# EAGLE library part HEADER-2X04 (library Header and Connector)
Header - 2X04
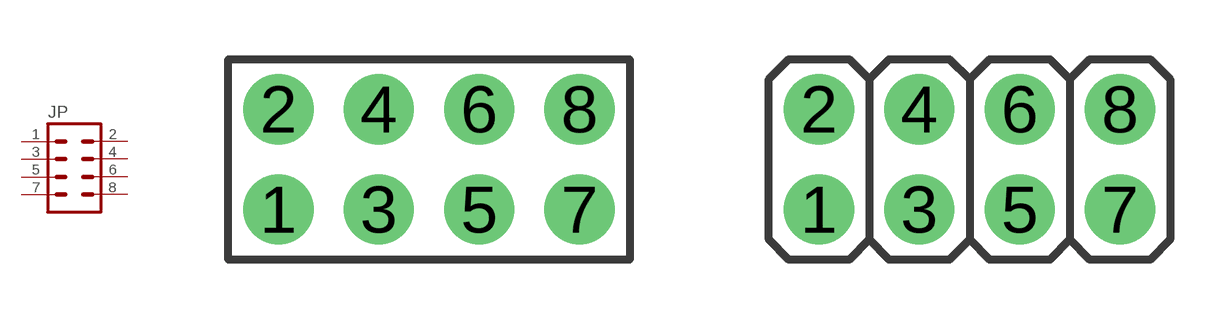
[diagram p9: symbol with the pads of HDR-F2X04; footprints HDR-F2X04, HDR-M2X04]

Designator prefix JP

## HEADER-2X04_(FEMALE) (CYTRON-PC: CN-PH-F240S; DESC: Female Header - 2x40 Ways; VALUE: 4/40 Ways)  [HDR-F2X04]
1  1  pas
2  2  pas
3  3  pas
4  4  pas
5  5  pas
6  6  pas
7  7  pas
8  8  pas

## HEADER-2X04_(MALE) (CYTRON-PC: CN-PH-M240S; DESC: Male Header - 2x40 Ways; VALUE: 4/40 Ways)  [HDR-M2X04]
Pads as for HDR-F2X04

## HEADER-2X04_(SMD-FEMALE-LP) (CYTRON-PC: S-CN-PH-F204S; DESC: S Straight Female Header 2x4 Ways; VALUE: 2x4 Ways)  [S-HDR-F2X04-LP]
Pads as for HDR-F2X04

## Footprint HDR-F2X04 (pad centres in mm)
Female Header - 2X04
drill 1.016 pad 1.778: 1 0,0; 2 0,2.54; 3 2.54,0; 4 2.54,2.54; 5 5.08,0; 6 5.08,2.54; 7 7.62,0; 8 7.62,2.54

## Footprint HDR-M2X04 (pad centres in mm)
Male Header - 2X04
drill 1.016 pad 1.778: 1 0,0; 2 0,2.54; 3 2.54,0; 4 2.54,2.54; 5 5.08,0; 6 5.08,2.54; 7 7.62,0; 8 7.62,2.54

## Footprint S-HDR-F2X04-LP (pad centres in mm)
SMD Female Header (Low Profile) - 2X04 Height: 3.5mm Created by: Wai Weng
smd 1.016 x 1.778: 1 -3.81,-3.048; 2 -3.81,3.048; 3 -1.27,-3.048; 4 -1.27,3.048; 5 1.27,-3.048; 6 1.27,3.048; 7 3.81,-3.048; 8 3.81,3.048
hole 1.05 at 3.81,1.27
hole 1.05 at 3.81,-1.27
hole 1.05 at 1.27,1.27
hole 1.05 at 1.27,-1.27
hole 1.05 at -1.27,1.27
hole 1.05 at -1.27,-1.27
hole 1.05 at -3.81,1.27
hole 1.05 at -3.81,-1.27
hole 1.8 at -2.54,0
hole 1.8 at 2.54,0